# EAGLE library part 74LVC1T45GS,132 (library host)
74LVC1T45; 74LVCH1T45 - Dual supply translating transceiver; 3-state@en-us Source: Datasheet <https://assets.nexperia.com/documents/data-sheet/74LVC_LVCH1T45.pdf>
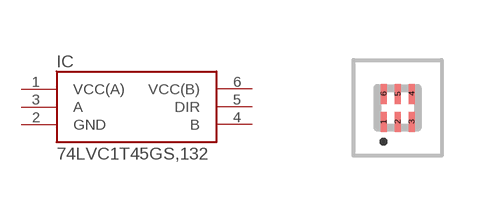
[diagram p1: symbol with the pads of 74LVC1G3157GS132; footprint 74LVC1G3157GS132]

Designator prefix IC

## 74LVC1T45GS,132 (ARROW_PART_NUMBER: 74LVC1T45GS,132; ARROW_PRICE-STOCK: https://www.arrow.com/en/products/74lvc1t45gs132/nexperia?region=nac; DESCRIPTION: 74LVC1T45; 74LVCH1T45 - Dual supply translating transceiver; 3-state@en-us; HEIGHT: 0.35mm; MANUFACTURER_NAME: Nexperia; MANUFACTURER_PART_NUMBER: 74LVC1T45GS,132; MOUSER_PART_NUMBER: 771-74LVC1T45GS132; MOUSER_PRICE-STOCK: https://www.mouser.co.uk/ProductDetail/Nexperia/74LVC1T45GS132?qs=vbj%2FKoHZRAipTvFaVBBEqQ%3D%3D)  [74LVC1G3157GS132]
1  VCC(A)
2  GND
3  A
4  B
5  DIR
6  VCC(B)

## Footprint 74LVC1G3157GS132 (pad centres in mm)
SOT1202
smd 0.15 x 0.5: 1 -0.35,-0.35; 2 0,-0.35; 3 0.35,-0.35; 4 0.35,0.35; 5 0,0.35; 6 -0.35,0.35